# Altium footprint library MSD1278T-223MLD.PcbLib: 1 footprints
Each footprint in its own frame and in the unit in brackets; x right, y up, seen from the top. Pads: shape width x height; smd on the part's side, far side on the other; paste and mask are expansions set on the pad; w line width, h text height; cw(c..) or ccw(c..) is an arc to the next point about the centre after c.
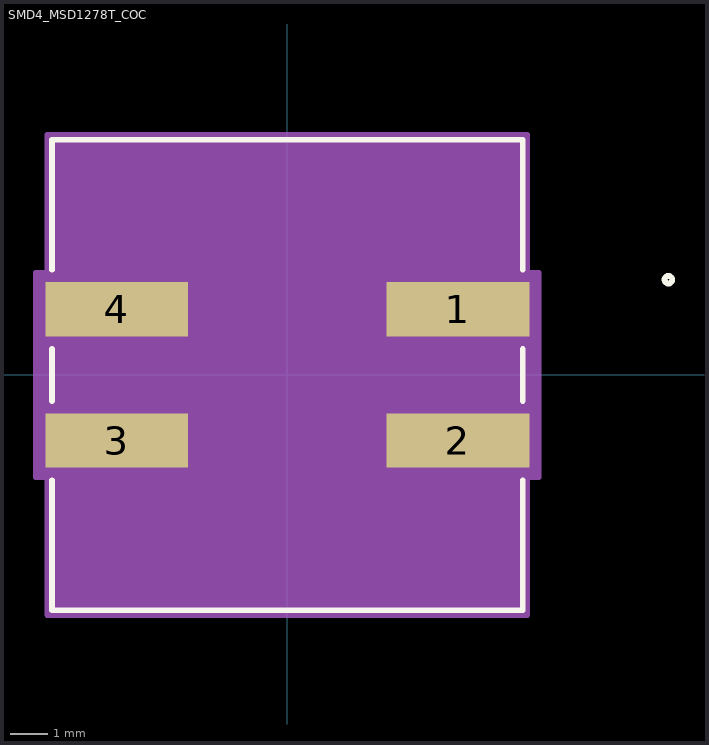
[diagram p0: the footprint, top view; thin cyan lines are the x and y axes]

## SMD4_MSD1278T_COC [mil]
pads (4):
  rect 150x57 smd paste+0 mask+0: 1(179,68.9) 2(179,-68.9) 3(-179,-68.9) 4(-179,68.9)
Top Overlay:
  circle w6: c400,100 r4
  lines w6: -247,-110.5 -247,-247 247,-247 247,-110.5 ; -247,-27.3 -247,27.3 ; -247,110.5 -247,247 247,247 247,110.5 ; 247,-27.3 247,27.3
Mechanical 13:
  circle w0: c-104,68.9 r3
  lines w0: -12,242 ccw(c0,242) 12,242
  lines w1: -242,-242 242,-242 242,242 -242,242 -242,-242
Mechanical 15:
  region: -252,-107.4 -264,-107.4 -264,107.4 -252,107.4 -252,252 252,252 252,107.4 264,107.4 264,-107.4 252,-107.4 252,-252 -252,-252
  lines w6: -264,-107.4 -264,107.4 -252,107.4 -252,252 252,252 252,107.4 264,107.4 264,-107.4 252,-107.4 252,-252 -252,-252 -252,-107.4 -264,-107.4